# EAGLE library part LTC2953 (library linear-technology)
Push Button On/Off Controller
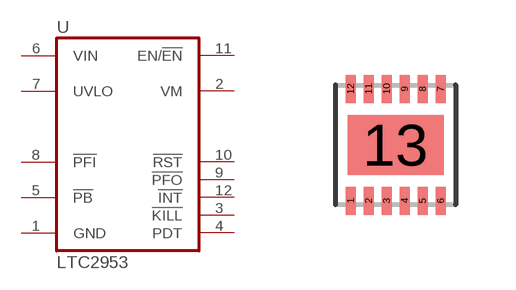
[diagram p53: symbol with the pads of DFN12-3X3; footprint DFN12-3X3]

Designator prefix U

## LTC2953 (P1I: o)  [DFN12-3X3]
1  GND
2  VM
3  !KILL!
4  PDT
5  !PB!
6  VIN
7  UVLO
8  !PFI!
9  !PFO!
10  !RST!
11  EN/!EN!
12  !INT!

## Footprint DFN12-3X3 (pad centres in mm)
DFN 3x3mm, 12 lead
smd 0.25 x 0.7: 1 -1.125,-1.4; 2 -0.675,-1.4; 3 -0.225,-1.4; 4 0.225,-1.4; 5 0.675,-1.4; 6 1.125,-1.4; 7 1.125,1.4; 8 0.675,1.4; 9 0.225,1.4; 10 -0.225,1.4; 11 -0.675,1.4; 12 -1.125,1.4
smd 2.4 x 1.5: 13 0,0